# Altium schematic symbol library TS-1187A-B-A-B.SchLib: 1 symbol
Pins are listed as number, name and electrical type; pins without a type are passive.

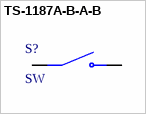
[diagram p0: symbol TS-1187A-B-A-B]

## TS-1187A-B-A-B
designator S?, comment SW
SWITCH TACTILE SPST-NO 0.05A 12V SMD 3X4MM
footprint SW_TS-1187A-B-A-B
footprint SW_TS-1187A-B-A-B
pins: A COM, B COM, C NO, D NO